# Altium integrated library Elantec Video Amplifier.IntLib: 29 symbols
Pins are listed as number, name and electrical type; pins without a type are passive.

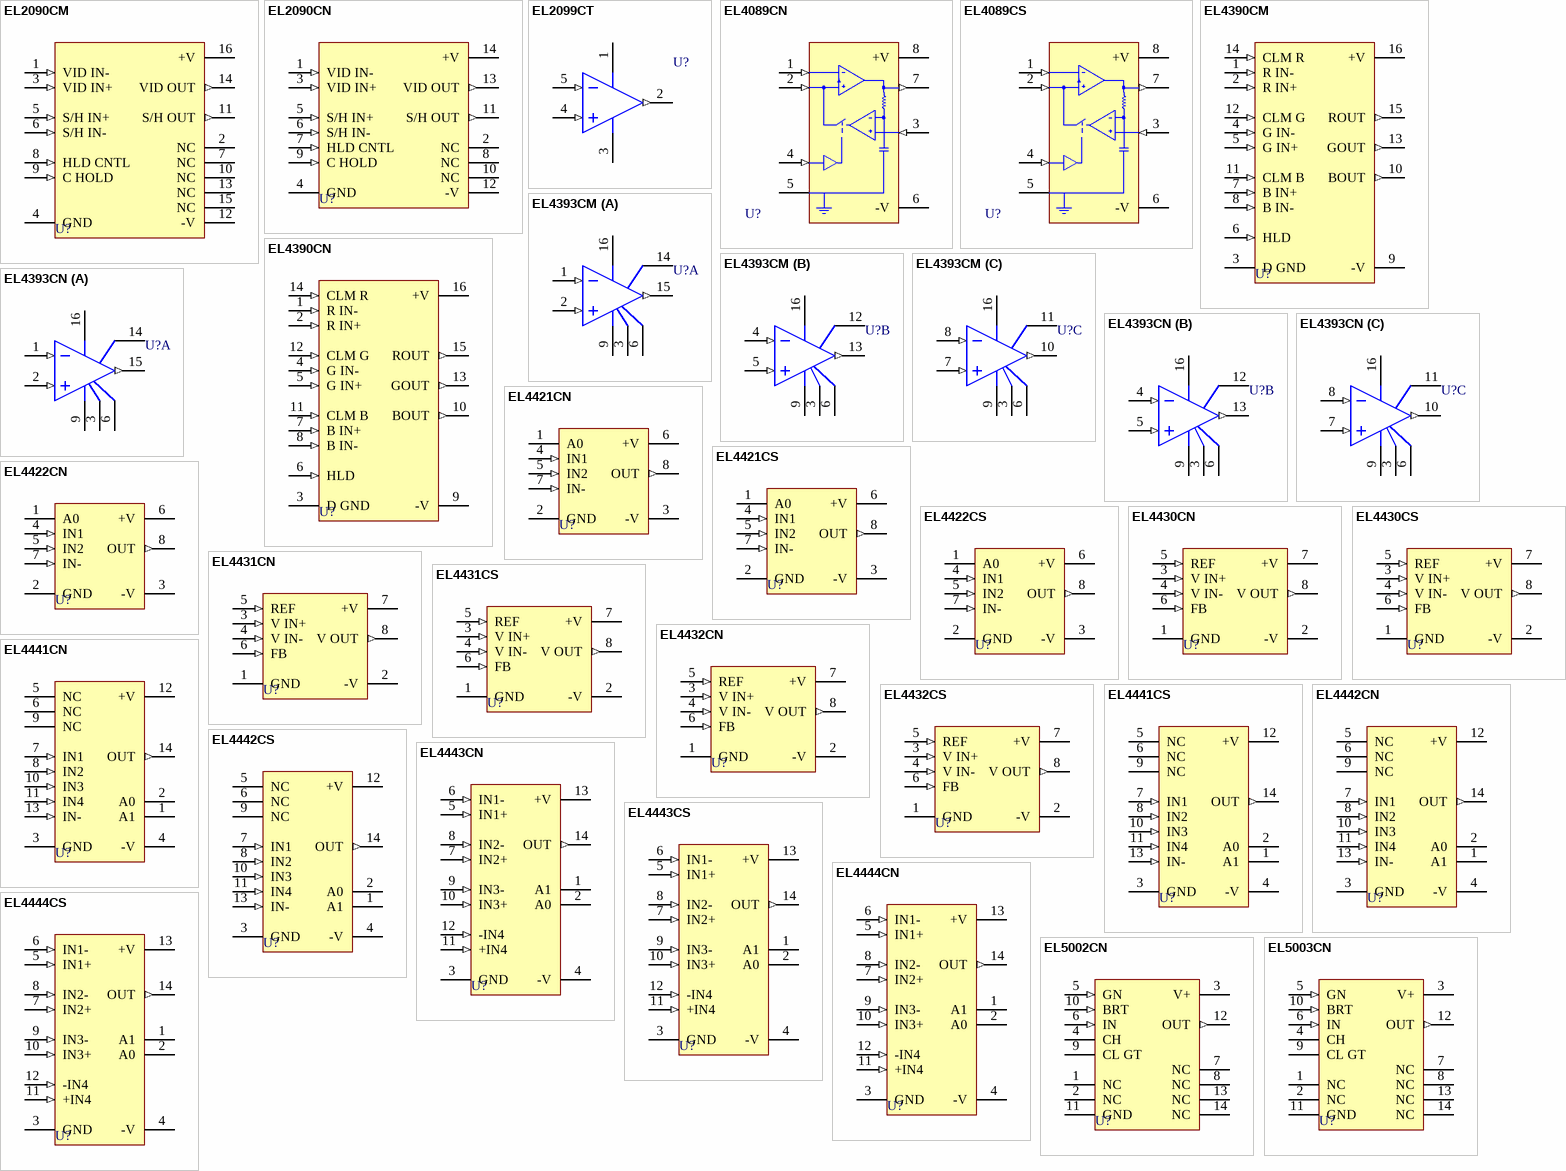
[diagram p0: symbols EL2090CM to EL5003CN]

## EL2090CM
designator U?
100 MHz DC-Restored Video Amplifier; Note: Pins 2,7,10,13,15 are No Connection; Published: 8-Jun-2000; LatestRevisionDate: 13-Apr-2006; LatestRevisionNote: IPC-7351 Footprint Added.; DatasheetVersion: Jan-1996; PackageReference: SOL-16; Publisher: Altium Limited; PackageDescription: 16-Pin Small Outline Integrated Circuit 1.27 mm Pitch; ComponentLink1Description: Manufacturer Link; ComponentLink1URL: http://www.intersil.com/cda/home/
footprint SOL-16_N (SOIC, 16-Leads, Body 10.5x7.5mm, Pitch 1.27mm, IPC Medium Density)
footprint SOL-16_L (SOIC, 16-Leads, Body 10.5x7.5mm, Pitch 1.27mm, IPC High Density)
footprint SOL-16_M (SOIC, 16-Leads, Body 10.5x7.5mm, Pitch 1.27mm, IPC Low Density)
3D model SOL-16 (16-Pin Small Outline Integrated Circuit 1.27 mm Pitch)
simulation model EL2090 (SUBCKT)
pins: 1 VID IN- (in), 2 NC, 3 VID IN+ (in), 4 GND (power), 5 S/H IN+ (in), 6 S/H IN- (in), 7 NC, 8 HLD CNTL (in), 9 C HOLD (in), 10 NC, 11 S/H OUT (out), 12 -V (power), 13 NC, 14 VID OUT (out), 15 NC, 16 +V (power)

## EL2090CN
designator U?
100 MHz DC-Restored Video Amplifier; Published: 8-Jun-2000; LatestRevisionDate: 04-Mar-2005; LatestRevisionNote: Stylized 3D Model Added.; DatasheetVersion: Jan-1996; PackageReference: MDP0031-14; Publisher: Altium Limited; PackageDescription: DIP; 14 Leads; Row Spacing 7.62 mm; Pitch 2.54 mm; ComponentLink1Description: Manufacturer Link; ComponentLink1URL: http://www.intersil.com/cda/home/
footprint MDP0031-14 (DIP; 14 Leads; Row Spacing 7.62 mm; Pitch 2.54 mm)
3D model MDP0031-14 (DIP; 14 Leads; Row Spacing 7.62 mm; Pitch 2.54 mm)
simulation model EL2090 (SUBCKT)
pins: 1 VID IN- (in), 2 NC, 3 VID IN+ (in), 4 GND (power), 5 S/H IN+ (in), 6 S/H IN- (in), 7 HLD CNTL (in), 8 NC, 9 C HOLD (in), 10 NC, 11 S/H OUT (out), 12 -V (power), 13 VID OUT (out), 14 +V (power)

## EL2099CT
designator U?
Video Distribution Amplifier; Published: 8-Jun-2000; LatestRevisionDate: 17-Jul-2002; LatestRevisionNote: PCB Footprint 'DFM-T5/Y2.2V' Replaced; Re-released for DXP Platform.; DatasheetVersion: Jan-1996; PackageVersion: 1997; PackageReference: MDP0028; Publisher: Altium Limited; PackageDescription: TO, Thru-Hole, Vertical, Heatsink Mounted; 5 Bent Staggered Leads; Pitch 1.7 mm; ComponentLink1Description: Manufacturer Link; ComponentLink1URL: http://www.intersil.com/cda/home/
footprint MDP0028 (TO, Thru-Hole, Vertical, Heatsink Mounted; 5 Bent Staggered Leads; Pitch 1.7 mm)
simulation model EL2099 (SUBCKT)
pins: 1 V+ (power), 2 OUT (out), 3 V- (power), 4 IN+ (in), 5 IN- (in)

## EL4089CN
designator U?
DC Restored Video Amplifier; Note: DC restoring amplifier with a gain of 2, restoring to ground.; Published: 8-Jun-2000; LatestRevisionDate: 17-Jul-2002; LatestRevisionNote: Re-released for DXP Platform.; DatasheetVersion: Jan-1996; PackageReference: MDP0031-8; Publisher: Altium Limited; PackageDescription: DIP; 8 Leads; Row Spacing 7.62 mm; Pitch 2.54 mm; ComponentLink1Description: Manufacturer Link; ComponentLink1URL: http://www.intersil.com/cda/home/; ComponentLink2Description: Datasheet; ComponentLink2URL: http://www.intersil.com/data/fn/fn7158.pdf
footprint MDP0031-8 (DIP; 8 Leads; Row Spacing 7.62 mm; Pitch 2.54 mm)
simulation model EL4089 (SUBCKT)
pins: 1 IN- (in), 2 IN+ (in), 3 S/H (in), 4 HLD (in), 5 GND (power), 6 -V (power), 7 OUT (out), 8 +V (power)

## EL4089CS
designator U?
DC Restored Video Amplifier; Note: DC restoring amplifier with a gain of 2, restoring to ground.; Published: 8-Jun-2000; LatestRevisionDate: 13-Apr-2006; LatestRevisionNote: IPC-7351 Footprint Added.; DatasheetVersion: Jan-1996; PackageReference: SO-8; Publisher: Altium Limited; PackageDescription: 8-Pin Small Outline Integrated Circuit 1.27 mm Pitch; ComponentLink1Description: Manufacturer Link; ComponentLink1URL: http://www.intersil.com/cda/home/; ComponentLink2Description: Datasheet; ComponentLink2URL: http://www.intersil.com/data/fn/fn7158.pdf
footprint SO-8_N (SOIC, 8-Leads, Body 4.9x3.9mm, Pitch 1.27mm, IPC Medium Density)
footprint SO-8_L (SOIC, 8-Leads, Body 4.9x3.9mm, Pitch 1.27mm, IPC High Density)
footprint SO-8_M (SOIC, 8-Leads, Body 4.9x3.9mm, Pitch 1.27mm, IPC Low Density)
3D model SO-8 (8-Pin Small Outline Integrated Circuit 1.27 mm Pitch)
simulation model EL4089 (SUBCKT)
pins: 1 IN- (in), 2 IN+ (in), 3 S/H (in), 4 HLD (in), 5 GND (power), 6 -V (power), 7 OUT (out), 8 +V (power)

## EL4390CM
designator U?
Triple 80 MHz Video Amplifier with DC Restore; Published: 8-Jun-2000; LatestRevisionDate: 13-Apr-2006; LatestRevisionNote: IPC-7351 Footprint Added.; DatasheetVersion: Nov-1994; PackageReference: SOL-16; Publisher: Altium Limited; PackageDescription: 16-Pin Small Outline Integrated Circuit 1.27 mm Pitch; ComponentLink1Description: Manufacturer Link; ComponentLink1URL: http://www.intersil.com/cda/home/
footprint SOL-16_N (SOIC, 16-Leads, Body 10.5x7.5mm, Pitch 1.27mm, IPC Medium Density)
footprint SOL-16_L (SOIC, 16-Leads, Body 10.5x7.5mm, Pitch 1.27mm, IPC High Density)
footprint SOL-16_M (SOIC, 16-Leads, Body 10.5x7.5mm, Pitch 1.27mm, IPC Low Density)
3D model SOL-16 (16-Pin Small Outline Integrated Circuit 1.27 mm Pitch)
pins: 1 R IN- (in), 2 R IN+ (in), 3 D GND (power), 4 G IN- (in), 5 G IN+ (in), 6 HLD (in), 7 B IN+ (in), 8 B IN- (in), 9 -V (power), 10 BOUT (out), 11 CLM B (in), 12 CLM G (in), 13 GOUT (out), 14 CLM R (in), 15 ROUT (out), 16 +V (power)

## EL4390CN
designator U?
Triple 80 MHz Video Amplifier with DC Restore; Published: 8-Jun-2000; LatestRevisionDate: 04-Mar-2005; LatestRevisionNote: Stylized 3D Model Added.; DatasheetVersion: Nov-1994; PackageReference: MDP0031-16; Publisher: Altium Limited; PackageDescription: DIP; 16 Leads; Row Spacing 7.62 mm; Pitch 2.54 mm; Code_JEDEC: MS-001-BB; ComponentLink1Description: Manufacturer Link; ComponentLink1URL: http://www.intersil.com/cda/home/
footprint MDP0031-16 (DIP; 16 Leads; Row Spacing 7.62 mm; Pitch 2.54 mm)
3D model MDP0031-16 (DIP; 16 Leads; Row Spacing 7.62 mm; Pitch 2.54 mm)
pins: 1 R IN- (in), 2 R IN+ (in), 3 D GND (power), 4 G IN- (in), 5 G IN+ (in), 6 HLD (in), 7 B IN+ (in), 8 B IN- (in), 9 -V (power), 10 BOUT (out), 11 CLM B (in), 12 CLM G (in), 13 GOUT (out), 14 CLM R (in), 15 ROUT (out), 16 +V (power)

## EL4393CM
designator U?
Triple 80 MHz Video Amplifier with Disable; Published: 8-Jun-2000; LatestRevisionDate: 13-Apr-2006; LatestRevisionNote: IPC-7351 Footprint Added.; DatasheetVersion: Jan-1996; PackageReference: SOL-16; Publisher: Altium Limited; PackageDescription: 16-Pin Small Outline Integrated Circuit 1.27 mm Pitch; ComponentLink1Description: Manufacturer Link; ComponentLink1URL: http://www.intersil.com/cda/home/
footprint SOL-16_N (SOIC, 16-Leads, Body 10.5x7.5mm, Pitch 1.27mm, IPC Medium Density)
footprint SOL-16_L (SOIC, 16-Leads, Body 10.5x7.5mm, Pitch 1.27mm, IPC High Density)
footprint SOL-16_M (SOIC, 16-Leads, Body 10.5x7.5mm, Pitch 1.27mm, IPC Low Density)
3D model SOL-16 (16-Pin Small Outline Integrated Circuit 1.27 mm Pitch)
simulation model EL4393 (SUBCKT)
pins on every part: 3 D GND (power), 6 GND (power), 9 V- (power), 16 V+ (power)
part A pins: 1 R IN- (in), 2 R IN+ (in), 14 ~{EN R}, 15 R OUT (out)
part B pins: 4 G IN- (in), 5 G IN+ (in), 12 ~{EN G}, 13 G OUT (out)
part C pins: 7 B IN+ (in), 8 B IN- (in), 10 B OUT (out), 11 ~{EN B}

## EL4393CN
designator U?
Triple 80 MHz Video Amplifier with Disable; Published: 8-Jun-2000; LatestRevisionDate: 04-Mar-2005; LatestRevisionNote: Stylized 3D Model Added.; DatasheetVersion: Jan-1996; PackageReference: MDP0031-16; Publisher: Altium Limited; PackageDescription: DIP; 16 Leads; Row Spacing 7.62 mm; Pitch 2.54 mm; Code_JEDEC: MS-001-BB; ComponentLink1Description: Manufacturer Link; ComponentLink1URL: http://www.intersil.com/cda/home/
footprint MDP0031-16 (DIP; 16 Leads; Row Spacing 7.62 mm; Pitch 2.54 mm)
3D model MDP0031-16 (DIP; 16 Leads; Row Spacing 7.62 mm; Pitch 2.54 mm)
simulation model EL4393 (SUBCKT)
pins on every part: 3 D GND (power), 6 GND (power), 9 V- (power), 16 V+ (power)
part A pins: 1 R IN- (in), 2 R IN+ (in), 14 ~{EN R}, 15 R OUT (out)
part B pins: 4 G IN- (in), 5 G IN+ (in), 12 ~{EN G}, 13 G OUT (out)
part C pins: 7 B IN+ (in), 8 B IN- (in), 10 B OUT (out), 11 ~{EN B}

## EL4421CN
designator U?
Multiplexed-Input Video Amplifier; Published: 8-Jun-2000; LatestRevisionDate: 17-Jul-2002; LatestRevisionNote: Re-released for DXP Platform.; DatasheetVersion: Jan-1996; PackageReference: MDP0031-8; Publisher: Altium Limited; PackageDescription: DIP; 8 Leads; Row Spacing 7.62 mm; Pitch 2.54 mm; ComponentLink1Description: Manufacturer Link; ComponentLink1URL: http://www.intersil.com/cda/home/
footprint MDP0031-8 (DIP; 8 Leads; Row Spacing 7.62 mm; Pitch 2.54 mm)
pins: 1 A0, 2 GND (power), 3 -V (power), 4 IN1 (in), 5 IN2 (in), 6 +V (power), 7 IN- (in), 8 OUT (out)

## EL4421CS
designator U?
Multiplexed-Input Video Amplifier; Published: 8-Jun-2000; LatestRevisionDate: 13-Apr-2006; LatestRevisionNote: IPC-7351 Footprint Added.; DatasheetVersion: Jan-1996; PackageReference: SO-8; Publisher: Altium Limited; PackageDescription: 8-Pin Small Outline Integrated Circuit 1.27 mm Pitch; ComponentLink1Description: Manufacturer Link; ComponentLink1URL: http://www.intersil.com/cda/home/
footprint SO-8_N (SOIC, 8-Leads, Body 4.9x3.9mm, Pitch 1.27mm, IPC Medium Density)
footprint SO-8_L (SOIC, 8-Leads, Body 4.9x3.9mm, Pitch 1.27mm, IPC High Density)
footprint SO-8_M (SOIC, 8-Leads, Body 4.9x3.9mm, Pitch 1.27mm, IPC Low Density)
3D model SO-8 (8-Pin Small Outline Integrated Circuit 1.27 mm Pitch)
pins: 1 A0, 2 GND (power), 3 -V (power), 4 IN1 (in), 5 IN2 (in), 6 +V (power), 7 IN- (in), 8 OUT (out)

## EL4422CN
designator U?
Multiplexed-Input Video Amplifier; Published: 8-Jun-2000; LatestRevisionDate: 17-Jul-2002; LatestRevisionNote: Re-released for DXP Platform.; DatasheetVersion: Jan-1996; PackageReference: MDP0031-8; Publisher: Altium Limited; PackageDescription: DIP; 8 Leads; Row Spacing 7.62 mm; Pitch 2.54 mm; ComponentLink1Description: Manufacturer Link; ComponentLink1URL: http://www.intersil.com/cda/home/
footprint MDP0031-8 (DIP; 8 Leads; Row Spacing 7.62 mm; Pitch 2.54 mm)
pins: 1 A0, 2 GND (power), 3 -V (power), 4 IN1 (in), 5 IN2 (in), 6 +V (power), 7 IN- (in), 8 OUT (out)

## EL4422CS
designator U?
Multiplexed-Input Video Amplifier; Published: 8-Jun-2000; LatestRevisionDate: 13-Apr-2006; LatestRevisionNote: IPC-7351 Footprint Added.; DatasheetVersion: Jan-1996; PackageReference: SO-8; Publisher: Altium Limited; PackageDescription: 8-Pin Small Outline Integrated Circuit 1.27 mm Pitch; ComponentLink1Description: Manufacturer Link; ComponentLink1URL: http://www.intersil.com/cda/home/
footprint SO-8_N (SOIC, 8-Leads, Body 4.9x3.9mm, Pitch 1.27mm, IPC Medium Density)
footprint SO-8_L (SOIC, 8-Leads, Body 4.9x3.9mm, Pitch 1.27mm, IPC High Density)
footprint SO-8_M (SOIC, 8-Leads, Body 4.9x3.9mm, Pitch 1.27mm, IPC Low Density)
3D model SO-8 (8-Pin Small Outline Integrated Circuit 1.27 mm Pitch)
pins: 1 A0, 2 GND (power), 3 -V (power), 4 IN1 (in), 5 IN2 (in), 6 +V (power), 7 IN- (in), 8 OUT (out)

## EL4430CN
designator U?
Video Instrumentation Amplifier; Published: 8-Jun-2000; LatestRevisionDate: 17-Jul-2002; LatestRevisionNote: Re-released for DXP Platform.; DatasheetVersion: Jan-1996; PackageReference: MDP0031-8; Publisher: Altium Limited; PackageDescription: DIP; 8 Leads; Row Spacing 7.62 mm; Pitch 2.54 mm; ComponentLink1Description: Manufacturer Link; ComponentLink1URL: http://www.intersil.com/cda/home/
footprint MDP0031-8 (DIP; 8 Leads; Row Spacing 7.62 mm; Pitch 2.54 mm)
simulation model EL4430 (SUBCKT)
pins: 1 GND (power), 2 -V (power), 3 V IN+ (in), 4 V IN- (in), 5 REF (in), 6 FB (in), 7 +V (power), 8 V OUT (out)

## EL4430CS
designator U?
Video Instrumentation Amplifier; Published: 8-Jun-2000; LatestRevisionDate: 13-Apr-2006; LatestRevisionNote: IPC-7351 Footprint Added.; DatasheetVersion: Jan-1996; PackageReference: SO-8; Publisher: Altium Limited; PackageDescription: 8-Pin Small Outline Integrated Circuit 1.27 mm Pitch; ComponentLink1Description: Manufacturer Link; ComponentLink1URL: http://www.intersil.com/cda/home/
footprint SO-8_N (SOIC, 8-Leads, Body 4.9x3.9mm, Pitch 1.27mm, IPC Medium Density)
footprint SO-8_L (SOIC, 8-Leads, Body 4.9x3.9mm, Pitch 1.27mm, IPC High Density)
footprint SO-8_M (SOIC, 8-Leads, Body 4.9x3.9mm, Pitch 1.27mm, IPC Low Density)
3D model SO-8 (8-Pin Small Outline Integrated Circuit 1.27 mm Pitch)
simulation model EL4430 (SUBCKT)
pins: 1 GND (power), 2 -V (power), 3 V IN+ (in), 4 V IN- (in), 5 REF (in), 6 FB (in), 7 +V (power), 8 V OUT (out)

## EL4431CN
designator U?
Video Instrumentation Amplifier; Published: 8-Jun-2000; LatestRevisionDate: 17-Jul-2002; LatestRevisionNote: Re-released for DXP Platform.; DatasheetVersion: Jan-1996; PackageReference: MDP0031-8; Publisher: Altium Limited; PackageDescription: DIP; 8 Leads; Row Spacing 7.62 mm; Pitch 2.54 mm; ComponentLink1Description: Manufacturer Link; ComponentLink1URL: http://www.intersil.com/cda/home/
footprint MDP0031-8 (DIP; 8 Leads; Row Spacing 7.62 mm; Pitch 2.54 mm)
pins: 1 GND (power), 2 -V (power), 3 V IN+ (in), 4 V IN- (in), 5 REF (in), 6 FB (in), 7 +V (power), 8 V OUT (out)

## EL4431CS
designator U?
Video Instrumentation Amplifier; Published: 8-Jun-2000; LatestRevisionDate: 13-Apr-2006; LatestRevisionNote: IPC-7351 Footprint Added.; DatasheetVersion: Jan-1996; PackageReference: SO-8; Publisher: Altium Limited; PackageDescription: 8-Pin Small Outline Integrated Circuit 1.27 mm Pitch; ComponentLink1Description: Manufacturer Link; ComponentLink1URL: http://www.intersil.com/cda/home/
footprint SO-8_N (SOIC, 8-Leads, Body 4.9x3.9mm, Pitch 1.27mm, IPC Medium Density)
footprint SO-8_L (SOIC, 8-Leads, Body 4.9x3.9mm, Pitch 1.27mm, IPC High Density)
footprint SO-8_M (SOIC, 8-Leads, Body 4.9x3.9mm, Pitch 1.27mm, IPC Low Density)
3D model SO-8 (8-Pin Small Outline Integrated Circuit 1.27 mm Pitch)
pins: 1 GND (power), 2 -V (power), 3 V IN+ (in), 4 V IN- (in), 5 REF (in), 6 FB (in), 7 +V (power), 8 V OUT (out)

## EL4432CN
designator U?
Video Instrumentation Amplifier; Published: 8-Jun-2000; LatestRevisionDate: 17-Jul-2002; LatestRevisionNote: Re-released for DXP Platform.; DatasheetVersion: Oct-1994; PackageReference: MDP0031-8; Publisher: Altium Limited; PackageDescription: DIP; 8 Leads; Row Spacing 7.62 mm; Pitch 2.54 mm; ComponentLink1Description: Manufacturer Link; ComponentLink1URL: http://www.intersil.com/cda/home/
footprint MDP0031-8 (DIP; 8 Leads; Row Spacing 7.62 mm; Pitch 2.54 mm)
pins: 1 GND (power), 2 -V (power), 3 V IN+ (in), 4 V IN- (in), 5 REF (in), 6 FB (in), 7 +V (power), 8 V OUT (out)

## EL4432CS
designator U?
Video Instrumentation Amplifier; Published: 8-Jun-2000; LatestRevisionDate: 13-Apr-2006; LatestRevisionNote: IPC-7351 Footprint Added.; DatasheetVersion: Oct-1994; PackageReference: SO-8; Publisher: Altium Limited; PackageDescription: 8-Pin Small Outline Integrated Circuit 1.27 mm Pitch; ComponentLink1Description: Manufacturer Link; ComponentLink1URL: http://www.intersil.com/cda/home/
footprint SO-8_N (SOIC, 8-Leads, Body 4.9x3.9mm, Pitch 1.27mm, IPC Medium Density)
footprint SO-8_L (SOIC, 8-Leads, Body 4.9x3.9mm, Pitch 1.27mm, IPC High Density)
footprint SO-8_M (SOIC, 8-Leads, Body 4.9x3.9mm, Pitch 1.27mm, IPC Low Density)
3D model SO-8 (8-Pin Small Outline Integrated Circuit 1.27 mm Pitch)
pins: 1 GND (power), 2 -V (power), 3 V IN+ (in), 4 V IN- (in), 5 REF (in), 6 FB (in), 7 +V (power), 8 V OUT (out)

## EL4441CN
designator U?
Multiplexed-Input Video Amplifier; Note: Pins 5,6,9 are No Connection; Published: 8-Jun-2000; LatestRevisionDate: 04-Mar-2005; LatestRevisionNote: Stylized 3D Model Added.; DatasheetVersion: Jan-1996; PackageReference: MDP0031-14; Publisher: Altium Limited; PackageDescription: DIP; 14 Leads; Row Spacing 7.62 mm; Pitch 2.54 mm; ComponentLink1Description: Manufacturer Link; ComponentLink1URL: http://www.intersil.com/cda/home/
footprint MDP0031-14 (DIP; 14 Leads; Row Spacing 7.62 mm; Pitch 2.54 mm)
3D model MDP0031-14 (DIP; 14 Leads; Row Spacing 7.62 mm; Pitch 2.54 mm)
pins: 1 A1, 2 A0, 3 GND (power), 4 -V (power), 5 NC, 6 NC, 7 IN1 (in), 8 IN2 (in), 9 NC, 10 IN3 (in), 11 IN4 (in), 12 +V (power), 13 IN- (in), 14 OUT (out)

## EL4441CS
designator U?
Multiplexed-Input Video Amplifier; Note: Pins 5,6,9 are No Connection; Published: 8-Jun-2000; LatestRevisionDate: 13-Apr-2006; LatestRevisionNote: IPC-7351 Footprint Added.; DatasheetVersion: Jan-1996; PackageReference: SO-14; Publisher: Altium Limited; PackageDescription: 14-Pin Small Outline Integrated Circuit 1.27 mm Pitch; ComponentLink1Description: Manufacturer Link; ComponentLink1URL: http://www.intersil.com/cda/home/
footprint SO-14_N (SOIC, 14-Leads, Body 8.6x3.9mm, Pitch 1.27mm, IPC Medium Density)
footprint SO-14_L (SOIC, 14-Leads, Body 8.6x3.9mm, Pitch 1.27mm, IPC High Density)
footprint SO-14_M (SOIC, 14-Leads, Body 8.6x3.9mm, Pitch 1.27mm, IPC Low Density)
3D model SO-14 (14-Pin Small Outline Integrated Circuit 1.27 mm Pitch)
pins: 1 A1, 2 A0, 3 GND (power), 4 -V (power), 5 NC, 6 NC, 7 IN1 (in), 8 IN2 (in), 9 NC, 10 IN3 (in), 11 IN4 (in), 12 +V (power), 13 IN- (in), 14 OUT (out)

## EL4442CN
designator U?
Multiplexed-Input Video Amplifier; Note: Pins 5,6,9 are No Connection; Published: 8-Jun-2000; LatestRevisionDate: 04-Mar-2005; LatestRevisionNote: Stylized 3D Model Added.; DatasheetVersion: Jan-1996; PackageReference: MDP0031-14; Publisher: Altium Limited; PackageDescription: DIP; 14 Leads; Row Spacing 7.62 mm; Pitch 2.54 mm; ComponentLink1Description: Manufacturer Link; ComponentLink1URL: http://www.intersil.com/cda/home/
footprint MDP0031-14 (DIP; 14 Leads; Row Spacing 7.62 mm; Pitch 2.54 mm)
3D model MDP0031-14 (DIP; 14 Leads; Row Spacing 7.62 mm; Pitch 2.54 mm)
pins: 1 A1, 2 A0, 3 GND (power), 4 -V (power), 5 NC, 6 NC, 7 IN1 (in), 8 IN2 (in), 9 NC, 10 IN3 (in), 11 IN4 (in), 12 +V (power), 13 IN- (in), 14 OUT (out)

## EL4442CS
designator U?
Multiplexed-Input Video Amplifier; Note: Pins 5,6,9 are No Connection; Published: 8-Jun-2000; LatestRevisionDate: 13-Apr-2006; LatestRevisionNote: IPC-7351 Footprint Added.; DatasheetVersion: Jan-1996; PackageReference: SO-14; Publisher: Altium Limited; PackageDescription: 14-Pin Small Outline Integrated Circuit 1.27 mm Pitch; ComponentLink1Description: Manufacturer Link; ComponentLink1URL: http://www.intersil.com/cda/home/
footprint SO-14_N (SOIC, 14-Leads, Body 8.6x3.9mm, Pitch 1.27mm, IPC Medium Density)
footprint SO-14_L (SOIC, 14-Leads, Body 8.6x3.9mm, Pitch 1.27mm, IPC High Density)
footprint SO-14_M (SOIC, 14-Leads, Body 8.6x3.9mm, Pitch 1.27mm, IPC Low Density)
3D model SO-14 (14-Pin Small Outline Integrated Circuit 1.27 mm Pitch)
pins: 1 A1, 2 A0, 3 GND (power), 4 -V (power), 5 NC, 6 NC, 7 IN1 (in), 8 IN2 (in), 9 NC, 10 IN3 (in), 11 IN4 (in), 12 +V (power), 13 IN- (in), 14 OUT (out)

## EL4443CN
designator U?
Multiplexed-Input Video Amplifier; Published: 8-Jun-2000; LatestRevisionDate: 04-Mar-2005; LatestRevisionNote: Stylized 3D Model Added.; DatasheetVersion: Jan-1996; PackageReference: MDP0031-14; Publisher: Altium Limited; PackageDescription: DIP; 14 Leads; Row Spacing 7.62 mm; Pitch 2.54 mm; ComponentLink1Description: Manufacturer Link; ComponentLink1URL: http://www.intersil.com/cda/home/
footprint MDP0031-14 (DIP; 14 Leads; Row Spacing 7.62 mm; Pitch 2.54 mm)
3D model MDP0031-14 (DIP; 14 Leads; Row Spacing 7.62 mm; Pitch 2.54 mm)
pins: 1 A1, 2 A0, 3 GND (power), 4 -V (power), 5 IN1+ (in), 6 IN1- (in), 7 IN2+ (in), 8 IN2- (in), 9 IN3- (in), 10 IN3+ (in), 11 +IN4 (in), 12 -IN4 (in), 13 +V (power), 14 OUT (out)

## EL4443CS
designator U?
Multiplexed-Input Video Amplifier; Published: 8-Jun-2000; LatestRevisionDate: 13-Apr-2006; LatestRevisionNote: IPC-7351 Footprint Added.; DatasheetVersion: Jan-1996; PackageReference: SO-14; Publisher: Altium Limited; PackageDescription: 14-Pin Small Outline Integrated Circuit 1.27 mm Pitch; ComponentLink1Description: Manufacturer Link; ComponentLink1URL: http://www.intersil.com/cda/home/
footprint SO-14_N (SOIC, 14-Leads, Body 8.6x3.9mm, Pitch 1.27mm, IPC Medium Density)
footprint SO-14_L (SOIC, 14-Leads, Body 8.6x3.9mm, Pitch 1.27mm, IPC High Density)
footprint SO-14_M (SOIC, 14-Leads, Body 8.6x3.9mm, Pitch 1.27mm, IPC Low Density)
3D model SO-14 (14-Pin Small Outline Integrated Circuit 1.27 mm Pitch)
pins: 1 A1, 2 A0, 3 GND (power), 4 -V (power), 5 IN1+ (in), 6 IN1- (in), 7 IN2+ (in), 8 IN2- (in), 9 IN3- (in), 10 IN3+ (in), 11 +IN4 (in), 12 -IN4 (in), 13 +V (power), 14 OUT (out)

## EL4444CN
designator U?
Multiplexed-Input Video Amplifier; Published: 8-Jun-2000; LatestRevisionDate: 04-Mar-2005; LatestRevisionNote: Stylized 3D Model Added.; DatasheetVersion: Jan-1996; PackageReference: MDP0031-14; Publisher: Altium Limited; PackageDescription: DIP; 14 Leads; Row Spacing 7.62 mm; Pitch 2.54 mm; ComponentLink1Description: Manufacturer Link; ComponentLink1URL: http://www.intersil.com/cda/home/
footprint MDP0031-14 (DIP; 14 Leads; Row Spacing 7.62 mm; Pitch 2.54 mm)
3D model MDP0031-14 (DIP; 14 Leads; Row Spacing 7.62 mm; Pitch 2.54 mm)
pins: 1 A1, 2 A0, 3 GND (power), 4 -V (power), 5 IN1+ (in), 6 IN1- (in), 7 IN2+ (in), 8 IN2- (in), 9 IN3- (in), 10 IN3+ (in), 11 +IN4 (in), 12 -IN4 (in), 13 +V (power), 14 OUT (out)

## EL4444CS
designator U?
Multiplexed-Input Video Amplifier; Published: 8-Jun-2000; LatestRevisionDate: 13-Apr-2006; LatestRevisionNote: IPC-7351 Footprint Added.; DatasheetVersion: Jan-1996; PackageReference: SO-14; Publisher: Altium Limited; PackageDescription: 14-Pin Small Outline Integrated Circuit 1.27 mm Pitch; ComponentLink1Description: Manufacturer Link; ComponentLink1URL: http://www.intersil.com/cda/home/
footprint SO-14_N (SOIC, 14-Leads, Body 8.6x3.9mm, Pitch 1.27mm, IPC Medium Density)
footprint SO-14_L (SOIC, 14-Leads, Body 8.6x3.9mm, Pitch 1.27mm, IPC High Density)
footprint SO-14_M (SOIC, 14-Leads, Body 8.6x3.9mm, Pitch 1.27mm, IPC Low Density)
3D model SO-14 (14-Pin Small Outline Integrated Circuit 1.27 mm Pitch)
pins: 1 A1, 2 A0, 3 GND (power), 4 -V (power), 5 IN1+ (in), 6 IN1- (in), 7 IN2+ (in), 8 IN2- (in), 9 IN3- (in), 10 IN3+ (in), 11 +IN4 (in), 12 -IN4 (in), 13 +V (power), 14 OUT (out)

## EL5002CN
designator U?
High Speed CRT Amplifier; Note: Pins 1,2,7,8,13,14 are No Connection; Published: 8-Jun-2000; LatestRevisionDate: 04-Mar-2005; LatestRevisionNote: Stylized 3D Model Added.; DatasheetVersion: Aug-1992; PackageReference: MDP0031-14; Publisher: Altium Limited; PackageDescription: DIP; 14 Leads; Row Spacing 7.62 mm; Pitch 2.54 mm; ComponentLink1Description: Manufacturer Link; ComponentLink1URL: http://www.intersil.com/cda/home/
footprint MDP0031-14 (DIP; 14 Leads; Row Spacing 7.62 mm; Pitch 2.54 mm)
3D model MDP0031-14 (DIP; 14 Leads; Row Spacing 7.62 mm; Pitch 2.54 mm)
pins: 1 NC, 2 NC, 3 V+ (power), 4 CH, 5 GN (in), 6 IN (in), 7 NC, 8 NC, 9 CL GT, 10 BRT (in), 11 GND (power), 12 OUT (out), 13 NC, 14 NC

## EL5003CN
designator U?
High Speed CRT Amplifier; Note: Pins 1,2,7,8,13,14 are No Connection; Published: 8-Jun-2000; LatestRevisionDate: 04-Mar-2005; LatestRevisionNote: Stylized 3D Model Added.; DatasheetVersion: Aug-1992; PackageReference: MDP0031-14; Publisher: Altium Limited; PackageDescription: DIP; 14 Leads; Row Spacing 7.62 mm; Pitch 2.54 mm; ComponentLink1Description: Manufacturer Link; ComponentLink1URL: http://www.intersil.com/cda/home/
footprint MDP0031-14 (DIP; 14 Leads; Row Spacing 7.62 mm; Pitch 2.54 mm)
3D model MDP0031-14 (DIP; 14 Leads; Row Spacing 7.62 mm; Pitch 2.54 mm)
pins: 1 NC, 2 NC, 3 V+ (power), 4 CH, 5 GN (in), 6 IN (in), 7 NC, 8 NC, 9 CL GT, 10 BRT (in), 11 GND (power), 12 OUT (out), 13 NC, 14 NC